# Altium schematic symbol library CONN_4P.Schlib: 1 symbol
Pins are listed as number, name and electrical type; pins without a type are passive.

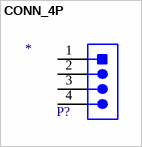
[diagram p0: symbol CONN_4P]

## CONN_4P
designator P?
Value: *
pins: 1, 2, 3 1, 4 1